# Altium schematic symbol library Res_Vishay_CRCW0603523RFKEA_523Ohm.SchLib: 1 symbol
Pins are listed as number, name and electrical type; pins without a type are passive.

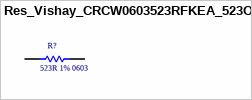
[diagram p0: symbol Res_Vishay_CRCW0603523RFKEA_523Ohm]

## Res_Vishay_CRCW0603523RFKEA_523Ohm
designator R?  Resistance: 523R 1% 0603  (hidden comment: *)
RES SMD 523 OHM 1% 1/10W 0603; Supplier 1: Mouser; Supplier Part Number 1: 71-CRCW0603-523-E3
footprint Res_Vishay_CRCW0603523RFKEA_523Ohm
pins: 1, 2